# Altium schematic symbol library Liquid_Sensor.SchLib: 1 symbol
Pins are listed as number, name and electrical type; pins without a type are passive.

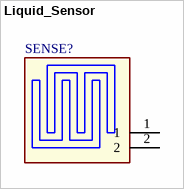
[diagram p0: symbol Liquid_Sensor]

## Liquid_Sensor
designator SENSE?  (no BOM)
pins: 1, 2